# Altium integrated library Unified Connectors.IntLib: 8 symbols
Pins are listed as number, name and electrical type; pins without a type are passive.

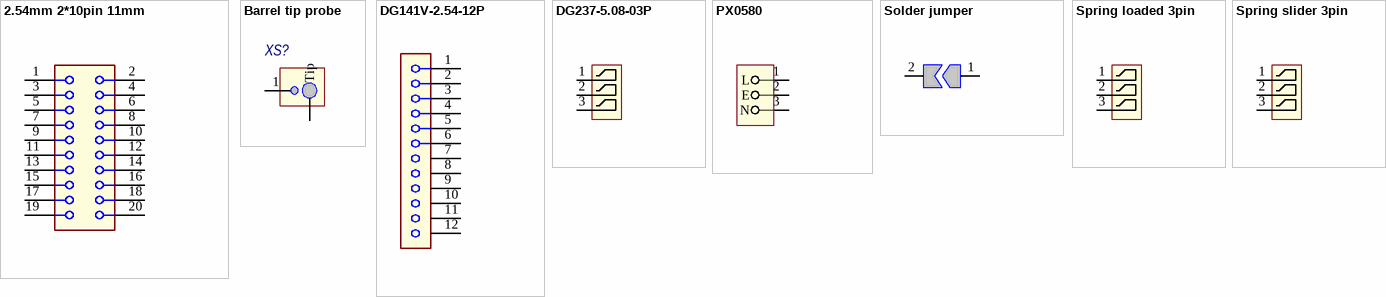
[diagram p0: symbols 2.54mm 2*10pin 11mm to Spring slider 3pin]

## 2.54mm 2*10pin 11mm
designator *
Parameter 1: *
footprint 2.54 2*10pin 11mm
pins: 1, 2, 3, 4, 5, 6, 7, 8, 9, 10, 11, 12, 13, 14, 15, 16, 17, 18, 19, 20

## Barrel tip probe
designator XS?  (value not drawn)
Контактная группа для подключения щупа осциллографа
footprint Barrel tip probe (Testpoint)
pins: 1, 2 Tip

## DG141V-2.54-12P
designator XS?
Parameter 1: *
footprint DG141V-2.54-12P
pins: 1, 2, 3, 4, 5, 6, 7, 8, 9, 10, 11, 12

## DG237-5.08-03P
designator *
footprint DG237-5.08-03P
pins: 1, 2, 3

## PX0580
designator XP?
footprint PX0580/PC
pins: 1 L, 2 E, 3 N

## Solder jumper
designator SJ?  (value not drawn)
footprint Solder jumper
pins: 1, 2

## Spring loaded 3pin
designator *
footprint Sping loaded contact 3pin
pins: 1, 2, 3

## Spring slider 3pin
designator *
footprint Sping loaded slider 3pin
pins: 1, 2, 3